# Altium footprint library SRN3015.PcbLib: 1 footprints
Each footprint in its own frame and in the unit in brackets; x right, y up, seen from the top. Pads: shape width x height; smd on the part's side, far side on the other; paste and mask are expansions set on the pad; w line width, h text height; cw(c..) or ccw(c..) is an arc to the next point about the centre after c.
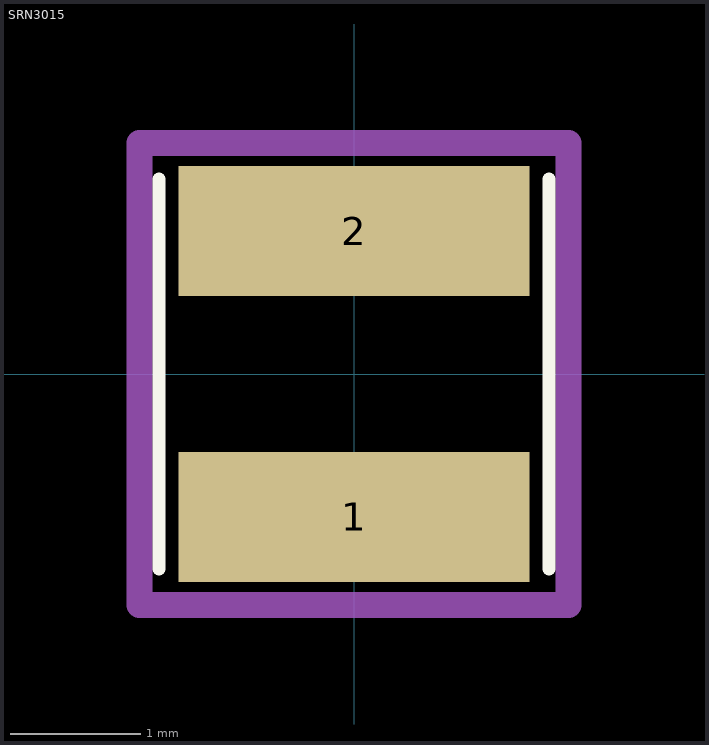
[diagram p0: the footprint, top view; thin cyan lines are the x and y axes]

## SRN3015 [mm]
pads (2):
  rect 2.7x1 smd: 1(0,-1.1) 2(0,1.1)
Top Overlay:
  lines w0.1: -1.5,-1.5 -1.5,1.5 ; 1.5,-1.5 1.5,1.5
Courtyard Top:
  lines w0.2: -1.651,-1.778 -1.651,1.778 1.651,1.778 1.651,-1.778 -1.651,-1.778
3D body: height 1.5, standoff 0, extent -1.476,-1.5 1.524,1.5